# Altium schematic symbol library Core1262.SchLib: 1 symbol
Pins are listed as number, name and electrical type; pins without a type are passive.

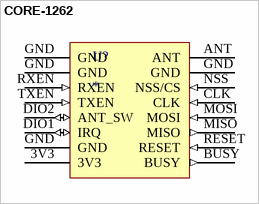
[diagram p0: symbol CORE-1262]

## CORE-1262
designator U?
LoRa HF module
pins: 3V3 (power), ANT, BUSY (out), CLK (in), DIO1 IRQ (io), DIO2 ANT_SW (io), GND (power), GND (power), GND (power), GND (power), MISO (out), MOSI (in), NSS NSS/CS (in), RESET (in), RXEN (in), TXEN (in)